# Altium footprint library MyPcbLib.PcbLib: 5 footprints
Each footprint in its own frame and in the unit in brackets; x right, y up, seen from the top. Pads: shape width x height; smd on the part's side, far side on the other; paste and mask are expansions set on the pad; w line width, h text height; cw(c..) or ccw(c..) is an arc to the next point about the centre after c.
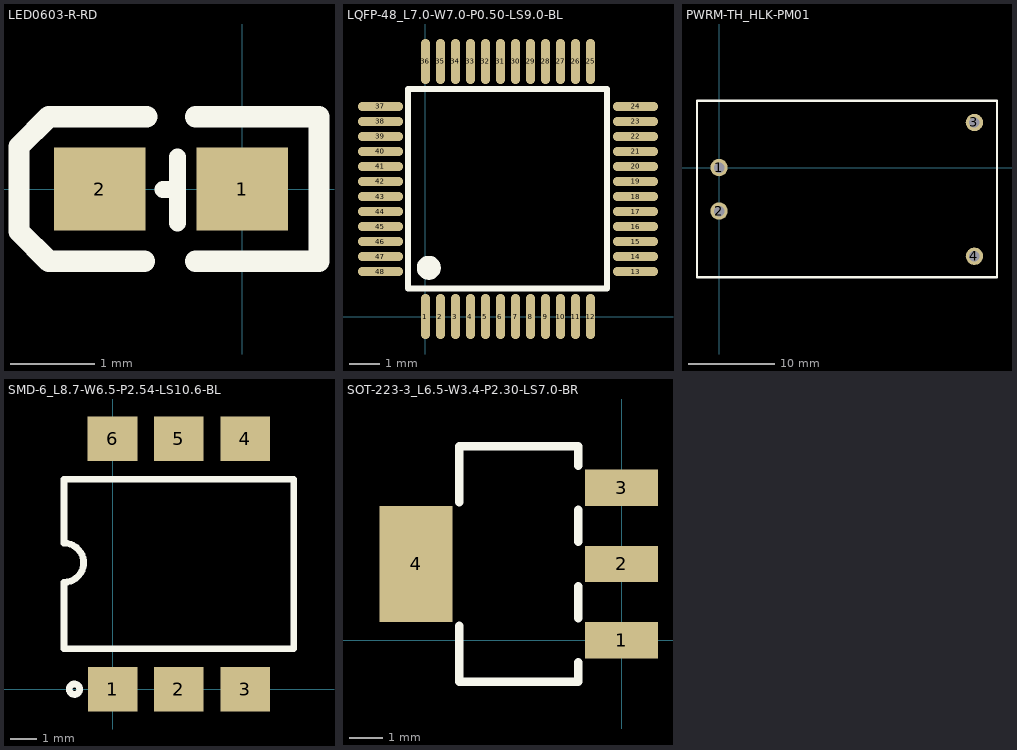
[diagram p0: the footprints below, top view; thin cyan lines are the x and y axes]

## LED0603-R-RD [mil]
pads (2):
  rect 43x39 smd: 1(0,0) 2(-67,0)
Top Overlay:
  lines w7.99: -37.4,-0.31 -30.5,-0.31 ; -30.5,-16 -30.5,15
  lines w10: -46,-34 -91,-34 -105,-20 -105,20 -91,34 -45,34 ; -22,-34 36,-34 36,34 -22,34

## LQFP-48_L7.0-W7.0-P0.50-LS9.0-BL [mm]
pads (48):
  oval 0.3x1.5 smd: 1(0,0) 2(0.5,0) 3(1,0) 4(1.5,0) 5(2,0) 6(2.5,0) 7(3,0) 8(3.5,0) 9(4,0) 10(4.5,0) 11(5,0) 12(5.5,0) 25(5.5,8.5) 26(5,8.5) 27(4.5,8.5) 28(4,8.5) 29(3.5,8.5) 30(3,8.5) 31(2.5,8.5) 32(2,8.5) 33(1.5,8.5) 34(1,8.5) 35(0.5,8.5) 36(0,8.5)
  oval 1.5x0.3 smd: 13(7,1.5) 14(7,2) 15(7,2.5) 16(7,3) 17(7,3.5) 18(7,4) 19(7,4.5) 20(7,5) 21(7,5.5) 22(7,6) 23(7,6.5) 24(7,7) 37(-1.5,7) 38(-1.5,6.5) 39(-1.5,6) 40(-1.5,5.5) 41(-1.5,5) 42(-1.5,4.5) 43(-1.5,4) 44(-1.5,3.5) 45(-1.5,3) 46(-1.5,2.5) 47(-1.5,2) 48(-1.5,1.5)
Top Overlay:
  lines w0.2: -0.146,7.59 6.052,7.59 6.052,0.935 -0.577,0.935 -0.577,7.59 0.185,7.59
  lines w0.4: 0.108,1.824 ccw(c0.11,1.624) 0.111,1.824

## PWRM-TH_HLK-PM01 [mm]
pads (4):
  round 2 hole 1.2: 1(0,0) 2(0,-5) 3(29.4,5.2) 4(29.4,-10.2)
Top Overlay:
  lines w0.254: -2.54,-12.62 -2.54,7.7 32.004,7.7 32.004,-12.62 -2.54,-12.62

## SMD-6_L8.7-W6.5-P2.54-LS10.6-BL [mm]
pads (6):
  rect 1.9x1.7 smd: 1(0,0) 2(2.538,0) 3(5.078,0) 4(5.08,9.6) 5(2.538,9.6) 6(-0.002,9.6)
Top Overlay:
  circle w0.254: c-1.461,0 r0.201
  lines w0.254: -1.862,1.55 -1.862,4.1 ccw(c-1.862,4.85) -1.862,5.6 -1.862,8.05 6.938,8.05 6.938,1.55 -1.862,1.55

## SOT-223-3_L6.5-W3.4-P2.30-LS7.0-BR [mm]
pads (4):
  rect 2.2x1.1 smd: 1(0,0) 2(0,2.3) 3(0,4.6)
  rect 2.2x3.5 smd: 4(-6.198,2.3)
Top Overlay:
  lines w0.254: -4.899,0.435 -4.899,-1.25 -1.299,-1.25 -1.299,-0.665 ; -4.899,4.165 -4.899,5.85 -1.299,5.85 -1.299,5.265 ; -1.299,0.665 -1.299,1.635 ; -1.299,2.965 -1.299,3.935